# EAGLE library part LTC3261 (library EagleParts)
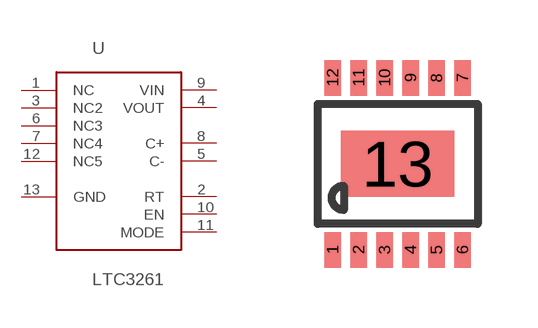
[diagram p7: symbol with the pads of MSOP12; footprint MSOP12]

Designator prefix -

## LTC3261"  [MSOP12]
1  NC
2  RT
3  NC2
4  VOUT
5  C-
6  NC3
7  NC4
8  C+
9  VIN
10  EN
11  MODE
12  NC5
13  GND

## Footprint MSOP12 (pad centres in mm)
smd 0.42 x 0.889: 1 -1.625,-2.15; 2 -0.975,-2.15; 3 -0.325,-2.15; 4 0.325,-2.15; 5 0.975,-2.15; 6 1.625,-2.15; 7 1.625,2.15; 8 0.975,2.15; 9 0.325,2.15; 10 -0.325,2.15; 11 -0.975,2.15; 12 -1.625,2.15
smd 2.845 x 1.651: 13 0,0